# EAGLE library part AS3933 (library RFID)
AS3933 3D Low Frequency Wakeup Receiver Datasheet <http://www1.futureelectronics.com/doc/AUSTRIAMICROSYSTEMS/AS3933-BQFT.pdf>
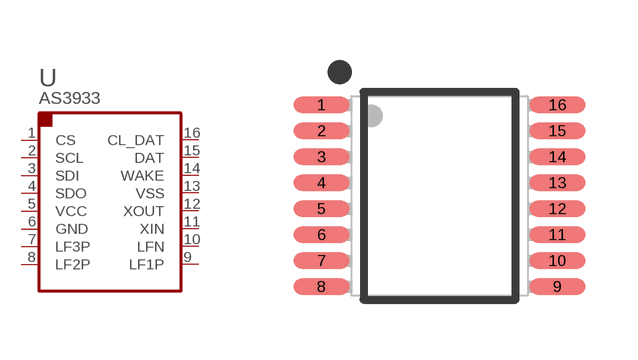
[diagram p6: symbol with the pads of TSSOP16; footprint TSSOP16]

Designator prefix U

## AS3933 (MFPN: AS3933-BTST; PARTNO: 01-100551-00)  [TSSOP16]
1  CS  in
2  SCL  in
3  SDI  in
4  SDO  out
5  VCC  pwr
6  GND  pwr
7  LF3P  pas
8  LF2P  pas
9  LF1P  pas
10  LFN  pas
11  XIN
12  XOUT
13  VSS  pwr
14  WAKE  out
15  DAT  out
16  CL_DAT  out

## Footprint TSSOP16 (pad centres in mm)
TSSOP16, 16-Leads, Body 5.00x4.40mm, Pitch 0.65mm, IPC Medium Density
smd 1.4 x 0.4: 1 -2.95,2.275; 2 -2.95,1.625; 3 -2.95,0.975; 4 -2.95,0.325; 5 -2.95,-0.325; 6 -2.95,-0.975; 7 -2.95,-1.625; 8 -2.95,-2.275; 9 2.95,-2.275; 10 2.95,-1.625; 11 2.95,-0.975; 12 2.95,-0.325; 13 2.95,0.325; 14 2.95,0.975; 15 2.95,1.625; 16 2.95,2.275